# EAGLE library part M5STACKCORE2 (library lbr_rin9147)
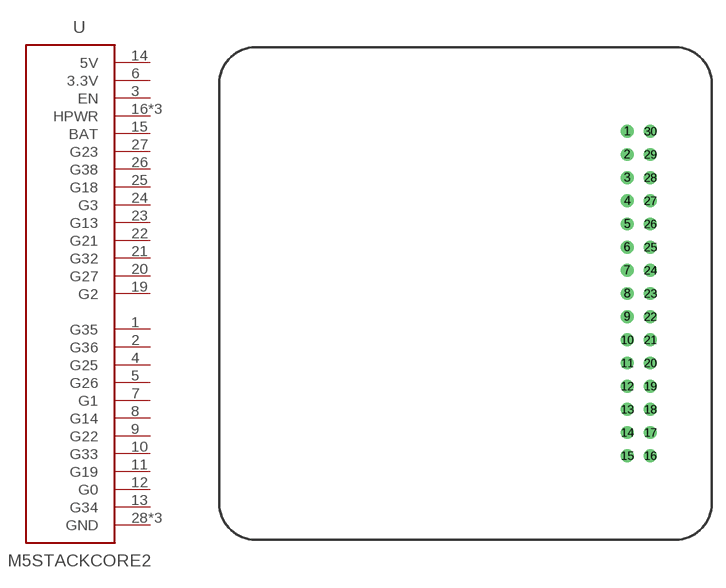
[diagram p10: symbol with the pads of M5STACKCORE2; footprint M5STACKCORE2]

Designator prefix -

## M5STACKCORE2  [M5STACKCORE2]
1  G35  in
2  G36  in
3  EN  in
4  G25  in
5  G26
6  3.3V  pas
7  G1
8  G14
9  G22
10  G33
11  G19
12  G0
13  G34  in
14  5V  pas
15  BAT  pas
16  HPWR  pas
17  HPWR  pas
18  HPWR  pas
19  G2
20  G27
21  G32
22  G21
23  G13
24  G3
25  G18
26  G38
27  G23
28  GND  pas
29  GND  pas
30  GND  pas

## Footprint M5STACKCORE2 (pad centres in mm)
drill 0.9: 1 -9.27,17.78; 2 -9.27,15.24; 3 -9.27,12.7; 4 -9.27,10.16; 5 -9.27,7.62; 6 -9.27,5.08; 7 -9.27,2.54; 8 -9.27,0; 9 -9.27,-2.54; 10 -9.27,-5.08; 11 -9.27,-7.62; 12 -9.27,-10.16; 13 -9.27,-12.7; 14 -9.27,-15.24; 15 -9.27,-17.78; 16 -6.73,-17.78; 17 -6.73,-15.24; 18 -6.73,-12.7; 19 -6.73,-10.16; 20 -6.73,-7.62; 21 -6.73,-5.08; 22 -6.73,-2.54; 23 -6.73,0; 24 -6.73,2.54; 25 -6.73,5.08; 26 -6.73,7.62; 27 -6.73,10.16; 28 -6.73,12.7; 29 -6.73,15.24; 30 -6.73,17.78